# Altium footprint library SparkFun-Aesthetics.PCBLIB: 96 footprints (part 5 of 6)
Each footprint in its own frame and in the unit in brackets; x right, y up, seen from the top. Pads: shape width x height; smd on the part's side, far side on the other; paste and mask are expansions set on the pad; w line width, h text height; cw(c..) or ccw(c..) is an arc to the next point about the centre after c.
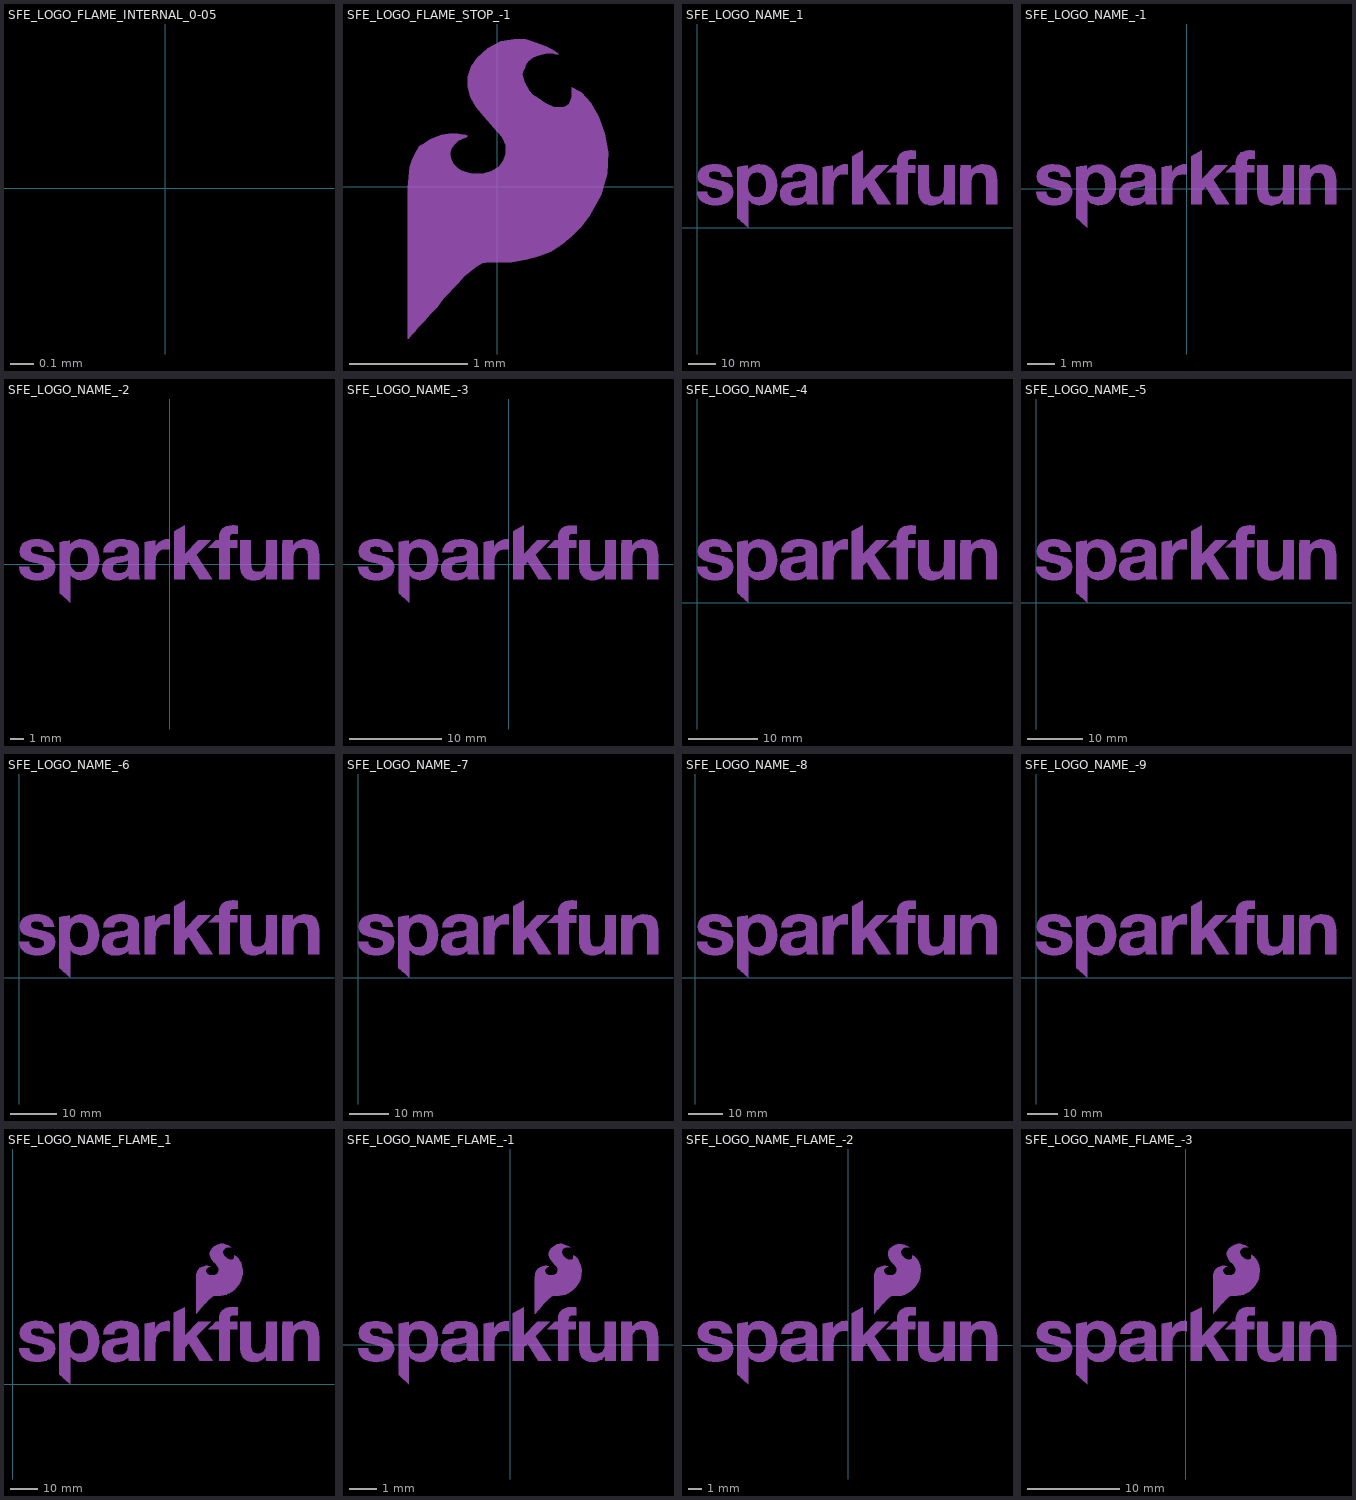
[diagram p4: the footprints below, top view; thin cyan lines are the x and y axes]

## SFE_LOGO_FLAME_INTERNAL_0-05 [mm]
Route15:
  region: 0.288,0.437 0.288,0.367 0.268,0.347 0.208,0.347 0.148,0.377 0.108,0.417 0.088,0.447 0.088,0.517 0.098,0.537 0.118,0.557 0.138,0.567 0.168,0.577 0.218,0.577 0.208,0.587 0.168,0.607 0.138,0.617 0.098,0.627 0.028,0.627 -0.012,0.617 -0.072,0.587 -0.122,0.537 -0.132,0.517 -0.142,0.487 -0.142,0.417 -0.132,0.387 -0.122,0.367 -0.062,0.287 -0.002,0.227 0.008,0.207 0.008,0.127 -0.002,0.107 -0.022,0.087 -0.062,0.067 -0.102,0.057 -0.112,0.057 -0.162,0.067 -0.182,0.077 -0.212,0.107 -0.222,0.127 -0.222,0.177 -0.192,0.207 -0.172,0.217 -0.162,0.227 -0.252,0.227 -0.322,0.197 -0.362,0.157 -0.382,0.117 -0.406,0.051 -0.406,-0.635 -0.132,-0.333 -0.092,-0.313 -0.052,-0.303 0.038,-0.303 0.108,-0.293 0.168,-0.273 0.228,-0.243 0.258,-0.223 0.328,-0.153 0.388,-0.073 0.408,-0.033 0.418,-0.003 0.428,0.037 0.438,0.097 0.438,0.167 0.428,0.227 0.418,0.267 0.408,0.297 0.378,0.357 0.358,0.377 0.298,0.427

## SFE_LOGO_FLAME_STOP_-1 [mm]
Top Solder:
  region: 0.63,0.843 0.63,0.763 0.61,0.703 0.58,0.683 0.55,0.673 0.48,0.673 0.4,0.713 0.37,0.733 0.33,0.763 0.3,0.783 0.27,0.813 0.25,0.853 0.23,0.883 0.22,0.923 0.21,0.953 0.22,0.983 0.23,1.003 0.24,1.033 0.26,1.063 0.3,1.093 0.34,1.113 0.39,1.123 0.43,1.133 0.46,1.133 0.49,1.123 0.52,1.123 0.51,1.133 0.47,1.163 0.41,1.193 0.33,1.223 0.24,1.253 0.14,1.253 0.03,1.233 -0.08,1.173 -0.17,1.093 -0.22,1.023 -0.25,0.933 -0.25,0.853 -0.23,0.763 -0.18,0.673 -0.11,0.593 -0.03,0.503 0.04,0.423 0.07,0.353 0.07,0.283 0.05,0.223 0.01,0.173 -0.05,0.133 -0.13,0.113 -0.21,0.113 -0.26,0.123 -0.31,0.143 -0.34,0.163 -0.37,0.193 -0.39,0.233 -0.4,0.263 -0.4,0.293 -0.39,0.323 -0.37,0.353 -0.33,0.393 -0.3,0.403 -0.26,0.423 -0.25,0.433 -0.27,0.443 -0.29,0.443 -0.33,0.453 -0.41,0.453 -0.47,0.443 -0.57,0.403 -0.61,0.373 -0.66,0.343 -0.69,0.293 -0.72,0.233 -0.74,0.173 -0.76,-0.007 -0.76,-1.287 -0.75,-1.287 -0.73,-1.257 -0.7,-1.227 -0.67,-1.187 -0.62,-1.137 -0.57,-1.077 -0.51,-1.017 -0.46,-0.947 -0.33,-0.817 -0.28,-0.757 -0.18,-0.677 -0.13,-0.647 -0.07,-0.637 0.12,-0.637 0.24,-0.617 0.35,-0.587 0.45,-0.547 0.55,-0.487 0.63,-0.417 0.71,-0.337 0.78,-0.247 0.88,-0.067 0.93,0.113 0.94,0.293 0.91,0.453 0.86,0.593 0.79,0.713 0.71,0.803
tDocu:
  region: 0.63,0.843 0.63,0.763 0.61,0.703 0.58,0.683 0.55,0.673 0.48,0.673 0.4,0.713 0.37,0.733 0.33,0.763 0.3,0.783 0.27,0.813 0.25,0.853 0.23,0.883 0.22,0.923 0.21,0.953 0.22,0.983 0.23,1.003 0.24,1.033 0.26,1.063 0.3,1.093 0.34,1.113 0.39,1.123 0.43,1.133 0.46,1.133 0.49,1.123 0.52,1.123 0.51,1.133 0.47,1.163 0.41,1.193 0.33,1.223 0.24,1.253 0.14,1.253 0.03,1.233 -0.08,1.173 -0.17,1.093 -0.22,1.023 -0.25,0.933 -0.25,0.853 -0.23,0.763 -0.18,0.673 -0.11,0.593 -0.03,0.503 0.04,0.423 0.07,0.353 0.07,0.283 0.05,0.223 0.01,0.173 -0.05,0.133 -0.13,0.113 -0.21,0.113 -0.26,0.123 -0.31,0.143 -0.34,0.163 -0.37,0.193 -0.39,0.233 -0.4,0.263 -0.4,0.293 -0.39,0.323 -0.37,0.353 -0.33,0.393 -0.3,0.403 -0.26,0.423 -0.25,0.433 -0.27,0.443 -0.29,0.443 -0.33,0.453 -0.41,0.453 -0.47,0.443 -0.57,0.403 -0.61,0.373 -0.66,0.343 -0.69,0.293 -0.72,0.233 -0.74,0.173 -0.76,-0.007 -0.76,-1.287 -0.75,-1.287 -0.73,-1.257 -0.7,-1.227 -0.67,-1.187 -0.62,-1.137 -0.57,-1.077 -0.51,-1.017 -0.46,-0.947 -0.33,-0.817 -0.28,-0.757 -0.18,-0.677 -0.13,-0.647 -0.07,-0.637 0.12,-0.637 0.24,-0.617 0.35,-0.587 0.45,-0.547 0.55,-0.487 0.63,-0.417 0.71,-0.337 0.78,-0.247 0.88,-0.067 0.93,0.113 0.94,0.293 0.91,0.453 0.86,0.593 0.79,0.713 0.71,0.803

## SFE_LOGO_NAME_1 [mm]
tPlace:
  drawing of 10 lines, arcs and shapes, not listed

## SFE_LOGO_NAME_-1 [mm]
tPlace:
  drawing of 10 lines, arcs and shapes, not listed

## SFE_LOGO_NAME_-2 [mm]
tPlace:
  drawing of 10 lines, arcs and shapes, not listed

## SFE_LOGO_NAME_-3 [mm]
tPlace:
  drawing of 10 lines, arcs and shapes, not listed

## SFE_LOGO_NAME_-4 [mm]
tPlace:
  drawing of 10 lines, arcs and shapes, not listed

## SFE_LOGO_NAME_-5 [mm]
tPlace:
  drawing of 10 lines, arcs and shapes, not listed

## SFE_LOGO_NAME_-6 [mm]
tPlace:
  drawing of 10 lines, arcs and shapes, not listed

## SFE_LOGO_NAME_-7 [mm]
tPlace:
  drawing of 10 lines, arcs and shapes, not listed

## SFE_LOGO_NAME_-8 [mm]
tPlace:
  drawing of 10 lines, arcs and shapes, not listed

## SFE_LOGO_NAME_-9 [mm]
tPlace:
  drawing of 10 lines, arcs and shapes, not listed

## SFE_LOGO_NAME_FLAME_1 [mm]
tPlace:
  drawing of 11 lines, arcs and shapes, not listed

## SFE_LOGO_NAME_FLAME_-1 [mm]
tPlace:
  drawing of 11 lines, arcs and shapes, not listed

## SFE_LOGO_NAME_FLAME_-2 [mm]
tPlace:
  drawing of 11 lines, arcs and shapes, not listed

## SFE_LOGO_NAME_FLAME_-3 [mm]
tPlace:
  drawing of 11 lines, arcs and shapes, not listed